# Altium integrated library Power Converters.IntLib: 13 symbols
Pins are listed as number, name and electrical type; pins without a type are passive.

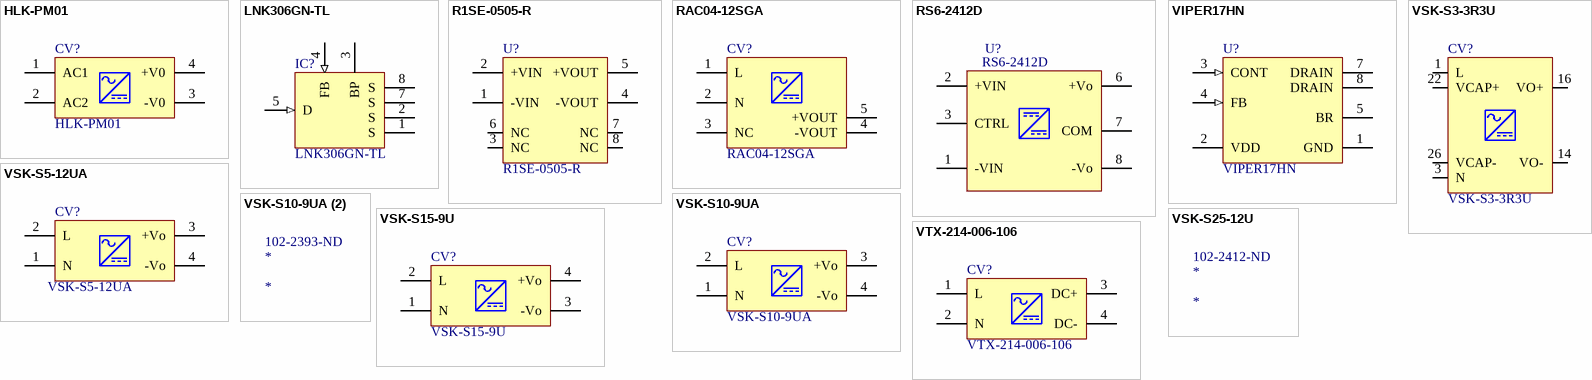
[diagram p0: symbols HLK-PM01 to VTX-214-006-106]

## HLK-PM01
designator CV?
CONV AC-DC 3W 5V; Value: HLK-PM01
footprint HLK-PM01
footprint HLK-5M12
pins: 1 AC1, 2 AC2, 3 -V0, 4 +V0

## LNK306GN-TL
designator IC?
IC OFFLINE SWIT OCP 8SMD; Manufacturer: Power Integrations; Min Supply Voltage (AC): 85V; Output Voltage: 12V; Max Supply Voltage (AC): 265V; Nominal Supply Current: 68uA; Output Current: 225mA; Max Duty Cycle: 72%; Number of Outputs: 1; Max Power Dissipation: 12mW; Switching Frequency: 66kHz; Breakdown Voltage: 700V; Supplier 1: Digi-Key; Supplier Part Number 1: 596-1026-6-ND; Manufacturer Part Number: LNK306GN-TL; Stock 1: 63334; Pricing 1: 1=1.81, 10=1.631, 25=1.456, 100=1.3104, 250=1.1648, 500=1.0192 (USD); Mount: Surface Mount; Case/Package: SMD/SMT; Min Operating Temperature: -40°C; Max Operating Temperature: 150°C; Package Quantity: 1; Packaging: Tape and Reel; Radiation Hardening: No; Lead Free: Lead Free; ComponentLink1URL: https://datasheet.ciiva.com/1929/lnk302-304-306-1929827.pdf; ComponentLink1Description: https://datasheet.ciiva.com/1929/lnk302-304-306-1929827.pdf; ComponentLink2URL: https://datasheet.ciiva.com/1929/lnk302-304-306-1929828.pdf; ComponentLink2Description: https://datasheet.ciiva.com/1929/lnk302-304-306-1929828.pdf; ComponentLink3URL: https://datasheet.ciiva.com/1929/lnk302-304-306-1929829.pdf; ComponentLink3Description: https://datasheet.ciiva.com/1929/lnk302-304-306-1929829.pdf; ComponentLink4URL: https://datasheet.ciiva.com/3243/lnk302-304-306-3243750.pdf; ComponentLink4Description: https://datasheet.ciiva.com/3243/lnk302-304-306-3243750.pdf; ComponentLink5URL: https://datasheet.ciiva.com/16621/lnk302-304-306-16621023.pdf; ComponentLink5Description: https://datasheet.ciiva.com/16621/lnk302-304-306-16621023.pdf; Description 1: IC OFFLINE SWIT OCP 8SMD; Value: LNK306GN-TL
footprint 8-SMD (7 Leads)
pins: 1 S, 2 S, 3 BP, 4 FB (in), 5 D (in), 7 S, 8 S

## R1SE-0505-R
designator U?
DC/DC CONVERTER 1W 5VIN 5VOUT; Manufacturer: Recom Power; Number of Outputs: 1; Voltage - Input (Min): 4.5V; Voltage - Input (Max): 5.5V; Voltage - Output 1: 5V; Current - Output (Max): 200mA; Voltage - Isolation: 1kV (1000V); Efficiency: 75%; Supplier 1: Digi-Key; Manufacturer Part Number: R1SE-0505-R; RoHS: RoHS Compliant; Category: Power Supplies - Board Mount; Stock 1: 6482; Pricing 1: 1=3.21, 5=3.162, 10=3.117, 25=3.0252, 50=2.9334, 100=2.8418, 250=2.75012 (USD); Packaging: Cut Tape (CT); Part Status: Active; Type: Isolated Module; Voltage - Output 2: -; Voltage - Output 3: -; Power (Watts) - Manufacture Series: 1W; Applications: ITE (Commercial); Features: SCP; Mounting Type: Surface Mount; Package / Case: 8-SMD Module (5 Leads); Size / Dimension: 0.50" L x 0.42" W x 0.26" H (12.8mm x 10.7mm x 6.7mm); Operating Temperature: -40°C ~ 85°C; ComponentLink1URL: http://www.recom-power.com/pdf/Econoline/R1SE.pdf; ComponentLink1Description: http://www.recom-power.com/pdf/Econoline/R1SE.pdf; Value: R1SE-0505-R; Supplier Part Number 1: 945-1659-1-ND
footprint SMD-8
pins: 1 -VIN, 2 +VIN, 3 NC, 4 -VOUT, 5 +VOUT, 6 NC, 7 NC, 8 NC

## RAC04-12SGA
designator CV?
CONV AC/DC 4W 85-305VIN 12VOUT T; Manufacturer: Recom; Max Output Voltage: 12V; Supplier 1: Digi-Key; Manufacturer Part Number: RAC04-12SGA; Stock 1: 109; Pricing 1: 1 = 8,73000, 5 = 8,66200, 20 = 8,59650, 40 = 8,46400, 60 = 8,19950, 100 = 7,40600, 260 = 7,27377, 500 = 7,14150 (USD); Weight: 20g; Length: 37mm; Height: 15mm; Width: 24mm; Value: RAC04-12SGA; Supplier Part Number 1: 945-3092-5-ND
footprint RAC04-12SGA
pins: 1 L, 2 N, 3 NC, 4 -VOUT, 5 +VOUT

## RS6-2412D
designator U?
DC DC CONVERTER +/-12V 6W; Manufacturer: Recom; Max Output Voltage: 12V; Supplier 1: Digi-Key; Manufacturer Part Number: RS6-2412D; Stock 1: 139; Pricing 1: 1 = 15,35000, 5 = 15,22800, 22 = 15,11273, 44 = 14,88000, 66 = 14,41500, 110 = 13,02000, 264 = 12,78750, 506 = 12,55500 (USD); Weight: 4g; Length: 21.8mm; Height: 11.1mm; Width: 9.2mm; Lead Free: Lead Free; Supplier Part Number 1: 945-2989-ND
footprint RS6-2412D
pins: 1 -VIN, 2 +VIN, 3 CTRL, 6 +Vo, 7 COM, 8 -Vo

## VIPER17HN
designator U?
IC OFFLINE CONV PWM OVP OCP 8DIP; Manufacturer: STMicroelectronics; Output Voltage: 800V; Output Current: 420mA; Output Power: 10W; Switching Frequency: 115kHz; Number of Outputs: 1; Topology: Flyback; Min Supply Voltage: 8.5V; Max Supply Voltage: 23.5V; Max Duty Cycle: 80%; Min Input Voltage: 85V; Max Input Voltage: 265V; Isolation: Isolated; Max Power Dissipation: 12W; Operating Supply Current: 1.8mA; Supplier 1: Digi-Key; Manufacturer Part Number: VIPER17HN; Stock 1: 163; Pricing 1: 1=0.91, 10=0.814, 100=0.6348, 500=0.5244, 1000=0.414 (USD); Mount: Through Hole; Case/Package: PDIP; Number of Pins: 7; Weight: 0.030018oz; Min Operating Temperature: -40°C; Max Operating Temperature: 150°C; Packaging: Rail/Tube; Package Quantity: 50; Power Rating: 10W; Breakdown Voltage: 800V; Max Supply Current: 1.8mA; Min Input Voltage (AC): 85V; Max Input Voltage (AC): 265V; Length: 9.27mm; Height: 3.3mm; Width: 6.35mm; Radiation Hardening: No; REACH SVHC: No SVHC; Lead Free: Lead Free; ComponentLink1URL: https://datasheet.ciiva.com/17102/viper17hn-17102165.pdf; ComponentLink1Description: https://datasheet.ciiva.com/17102/viper17hn-17102165.pdf; ComponentLink2URL: https://datasheet.ciiva.com/17564/cd00185039-17564474.pdf; ComponentLink2Description: https://datasheet.ciiva.com/17564/cd00185039-17564474.pdf; ComponentLink3URL: https://datasheet.ciiva.com/16503/cd00185039-16503531.pdf; ComponentLink3Description: https://datasheet.ciiva.com/16503/cd00185039-16503531.pdf; ComponentLink4URL: https://datasheet.ciiva.com/1930/cd00185039-1930046.pdf; ComponentLink4Description: https://datasheet.ciiva.com/1930/cd00185039-1930046.pdf; Value: VIPER17HN; Supplier Part Number 1: 497-6950-5-ND
footprint STM-DIP-7 (DIP, 7-Leads, Body 10.16x7.1mm, Pitch 2.54mm)
pins: 1 GND (power) "This pin represents the device ground and the source of the power section", 2 VDD (power) "Supply voltage of the control section. This pin also provides the charging current of the external capacitor during start-up time.", 3 CONT (in) "Control pin", 4 FB (in) "Control input for duty cycle control. Internal current generator provides bias current for loop regulation. A voltage below the threshold VFBbm activates the burst-mode operation. A level close to the threshold VFBlin means (See Datasheet)", 5 BR "Brownout protection input with hysteresis. A voltage below the threshold VBRth shuts down (not latch) the device and lowers the power consumption. Device operation restarts as the voltage exceeds the threshold VBRth + (See Datasheet)", 7 DRAIN "High voltage drain pin. The built-in high voltage switched start-up bias current is drawn from this pin too. Pins connected to the metal frame to facilitate heat dissipation.", 8 DRAIN "High voltage drain pin. The built-in high voltage switched start-up bias current is drawn from this pin too. Pins connected to the metal frame to facilitate heat dissipation."

## VSK-S3-3R3U
designator CV?
CONV AC-DC 3.3V@700MA 2.3W PCB; Manufacturer: CUI Inc.; Number of Outputs: 1; Voltage - Input: 85 ~ 264 VAC; Voltage - Output 1: 3.3V; Current - Output (Max): 700mA; Power (Watts): 3W; Power Supply Type: Switching (Closed Frame); Efficiency: 63%; Power (Watts) - Max: 2W; Line Regulation: ±0.5%; Load Regulation: ±1%; Approvals: EN, IEC, UL; Populated: Yes; Supplier 1: Digi-Key; Supplier Part Number 1: 102-1801-ND; Manufacturer Part Number: VSK-S3-3R3U; RoHS: RoHS Compliant; Category: Power Supplies - Board Mount; Stock 1: 1236; Pricing 1: 1=13.86, 5=13.662, 10=13.464, 50=12.276, 100=11.88, 250=11.484, 500=11.088 (USD); Voltage - Output 2: -; Voltage - Output 3: -; Voltage - Output 4: -; Applications: ITE (Commercial); Features: OTP, OVP, SCP; Operating Temperature: -25°C ~ 70°C; Mounting Type: Through Hole; Size / Dimension: 1.46" L x 0.91" W x 0.61" H (37.0mm x 23.0mm x 15.5mm); Weight: 0.056 lb (25.4g); ComponentLink1URL: http://www.cui.com/product/resource/digikeypdf/vsk-s3.pdf; ComponentLink1Description: http://www.cui.com/product/resource/digikeypdf/vsk-s3.pdf; Value: VSK-S3-3R3U
footprint VSK-S3-3R3U
pins: 1 L, 3 N, 14 VO-, 16 VO+, 22 VCAP+, 26 VCAP-

## VSK-S5-12UA
designator CV?
CONV AC/DC 5W 12V 0.42A PCB; Manufacturer: CUI; Number of Outputs: 1; Efficiency: 76%; Max Output Current: 420mA; Approvals: CE,cULus,EN; Supplier 1: Digi-Key; Manufacturer Part Number: VSK-S5-12UA; RoHS: Yes; Stock 1: 2116; Pricing 1: 1 = 16,33000, 9 = 16,09444, 18 = 15,86111, 27 = 14,92815, 54 = 14,46148, 108 = 13,99500, 252 = 13,52849, 504 = 13,06200 (USD); Mount: Through Hole; Weight: 0.077lb; Min Operating Temperature: -25°C; Max Operating Temperature: 70°C; Package Quantity: 19; Output Power: 5W; Output Voltage: 12V; Voltage - Output 1: 12V; Max Power Dissipation: 5W; Packaging: Bulk; Current - Output 1: 420mA; Features: OTP,OVP,SCP; Length: 2inch; Height: 0.62inch; Width: 1inch; Lead Free: Lead Free; ComponentLink1URL: http://www.cui.com/product/resource/digikeypdf/vsk-s5.pdf; ComponentLink1Description: http://www.cui.com/product/resource/digikeypdf/vsk-s5.pdf; ComponentLink2URL: http://www.cui.com/product/resource/futurepdf/vsk-s5.pdf; ComponentLink2Description: http://www.cui.com/product/resource/futurepdf/vsk-s5.pdf; Value: VSK-S5-12UA; Supplier Part Number 1: 102-2388-ND
footprint VSK-S5-12UA
pins: 1 N, 2 L, 3 +Vo, 4 -Vo

## VSK-S10-9UA
designator CV?
CONV AC/DC 10W 9V 1.1A PCB; Manufacturer: CUI Inc.; Number of Outputs: 1; Voltage - Input: 85 ~ 264 VAC; Power Supply Type: Enclosed; Efficiency: 76%; Line Regulation: ±0.5%; Load Regulation: ±1%; Approvals: CE, cULus, EN, IEC; Supplier 1: Digi-Key; Manufacturer Part Number: VSK-S10-9UA; RoHS: RoHS Compliant; Category: Power Supplies - Board Mount; Stock 1: 355; Pricing 1: 1=20.13, 5=19.536, 10=18.944, 25=18.352, 50=17.76, 100=17.168 (USD); Part Status: Active; Voltage - Output 1: 9V; Voltage - Output 2: -; Voltage - Output 3: -; Voltage - Output 4: -; Current - Output (Max): 1.1A; Power (Watts): 10W; Applications: ITE (Commercial); Features: OTP, OVP, SCP; Operating Temperature: -25°C ~ 70°C; Mounting Type: Through Hole; Size / Dimension: 2.10" L x 1.12" W x 0.75" H (53.3mm x 28.5mm x 19.5mm); Weight: 0.117 lb (53.07g); ComponentLink1URL: http://www.cui.com/product/resource/digikeypdf/vsk-s10_series.pdf; ComponentLink1Description: http://www.cui.com/product/resource/digikeypdf/vsk-s10_series.pdf; Value: VSK-S10-9UA; Supplier Part Number 1: 102-2393-ND
footprint VSK-S10-9UA
pins: 1 N, 2 L, 3 +Vo, 4 -Vo

## VSK-S10-9UA (2)
designator *  Supplier Part Number 1: 102-2393-ND
CONV AC/DC 10W 9V 1.1A PCB; Manufacturer: CUI; Manufacturer Part Number: VSK-S10-9UA; Number of Outputs: 1; Efficiency: 76%; Approvals: CE,cULus,IEC,EN; Supplier 1: Digi-Key; Stock 1: 2311; Pricing 1: 1 = 20,13000, 5 = 19,53600, 10 = 18,94400, 25 = 18,35200, 50 = 17,76000, 100 = 17,16800, 250 = 16,57600, 500 = 16,28000 (USD); RoHS: Yes; Mount: Through Hole; Weight: 0.117lb; Min Operating Temperature: -25°C; Max Operating Temperature: 70°C; Current - Output 1: 1.1A; Max Power Dissipation: 10W; Output Power: 10W; Output Voltage: 9V; Package Quantity: 24; Features: OVP,OTP,SCP; Voltage - Output 1: 9V; Max Output Current: 1.1A; Length: 53.5mm; Height: 0.75inch; Width: 28.5mm; Lead Free: Lead Free; ComponentLink1URL: https://datasheet.ciiva.com/16503/vsk-s10-series-16503994.pdf?src-supplier=Future+Electronics; ComponentLink1Description: https://datasheet.ciiva.com/16503/vsk-s10-series-16503994.pdf?src-supplier=Future+Electronics

## VSK-S15-9U
designator CV?
CONV AC/DC 15W 9V 1.6A PCB; Manufacturer: CUI Inc.; Number of Outputs: 1; Voltage - Input: 85 ~ 264 VAC; Efficiency: 78%; Line Regulation: ±0.5%; Load Regulation: ±1%; Approvals: CE, cULus, EN; Supplier 1: Digi-Key; Manufacturer Part Number: VSK-S15-9U; RoHS: RoHS Compliant; Category: Power Supplies - Board Mount; Stock 1: 33; Pricing 1: 1=21.25, 5=20.626, 10=20, 25=19.3752, 50=18.75, 100=18.125 (USD); Part Status: Active; Type: Enclosed; Voltage - Output 1: 9V; Voltage - Output 2: -; Voltage - Output 3: -; Voltage - Output 4: -; Current - Output (Max): 1.6A; Power (Watts): 15W; Applications: ITE (Commercial); Features: OCP, OVP, SCP; Operating Temperature: -40°C ~ 70°C (With Derating); Mounting Type: Through Hole; Size / Dimension: 2.44" L x 1.77" W x 0.91" H (62.0mm x 45.0mm x 23.0mm); Weight: 0.177 lb (80.29g); ComponentLink1URL: http://www.cui.com/product/resource/digikeypdf/vsk-s15_series.pdf; ComponentLink1Description: http://www.cui.com/product/resource/digikeypdf/vsk-s15_series.pdf; Supplier Part Number 1: 102-2401-ND; Value: VSK-S15-9U
footprint VSK-S15-9U
pins: 1 N, 2 L, 3 -Vo, 4 +Vo

## VSK-S25-12U
designator *  Supplier Part Number 1: 102-2412-ND
CONV AC/DC 25W 12V 2.1A PCB; Manufacturer: CUI Inc.; Manufacturer Part Number: VSK-S25-12U; Voltage - Input: 85 ~ 264 VAC; Efficiency: 82%; Line Regulation: ±0.5%; Load Regulation: ±1%; Approvals: CE, cULus, EN, IEC; Supplier 1: Digi-Key; RoHS: RoHS Compliant; Category: Power Supplies - Board Mount; Stock 1: 2398; Pricing 1: 1=30.74, 5=29.838, 10=28.935, 25=28.0304, 50=27.1262, 100=26.222, 250=25.31776 (USD); Part Status: Active; Type: Enclosed; Voltage - Output 1: 12V; Voltage - Output 2: -; Voltage - Output 3: -; Voltage - Output 4: -; Current - Output (Max): 2.1A; Applications: ITE (Commercial); Features: OCP, OTP, OVP, SCP; Operating Temperature: -40°C ~ 70°C (With Derating); Mounting Type: Through Hole; Package / Case: 6-DIP Module; Size / Dimension: 2.75" L x 1.89" W x 0.94" H (70.0mm x 48.0mm x 24.0mm); Weight: 0.265 lb (120.2g); ComponentLink1URL: http://www.cui.com/product/resource/digikeypdf/vsk-s25.pdf; ComponentLink1Description: http://www.cui.com/product/resource/digikeypdf/vsk-s25.pdf

## VTX-214-006-106
designator CV?
VIGORTRONIX - VTX-214-006-106 - AC/DC PCB Mount Power Supply, Class II, Fixed, 90 V, 265 V, 6 W, 6 V, 1 A; Populated: Yes; Supplier 1: Newark; Supplier Part Number 1: 40Y2690; Manufacturer: VIGORTRONIX; Manufacturer Part Number: VTX-214-006-106; RoHS: YES; Stock 1: 1; Pricing 1: 1=10.53, 100=8.61, 250=7.89, 500=7.33, 1000=6.89 (USD); ComponentLink1URL: http://www.farnell.com/datasheets/1878964.pdf; ComponentLink1Description: http://www.farnell.com/datasheets/1878964.pdf; ComponentLink2URL: http://www.farnell.com/richmedia/1898957.mp4; ComponentLink2Description: http://www.farnell.com/richmedia/1898957.mp4; Value: VTX-214-006-106
footprint VTX-214-010-207
pins: 1 L, 2 N, 3 DC+, 4 DC-